# Altium schematic symbol library IC集成芯片原理图库.SchLib: 27 symbols
Pins are listed as number, name and electrical type; pins without a type are passive.

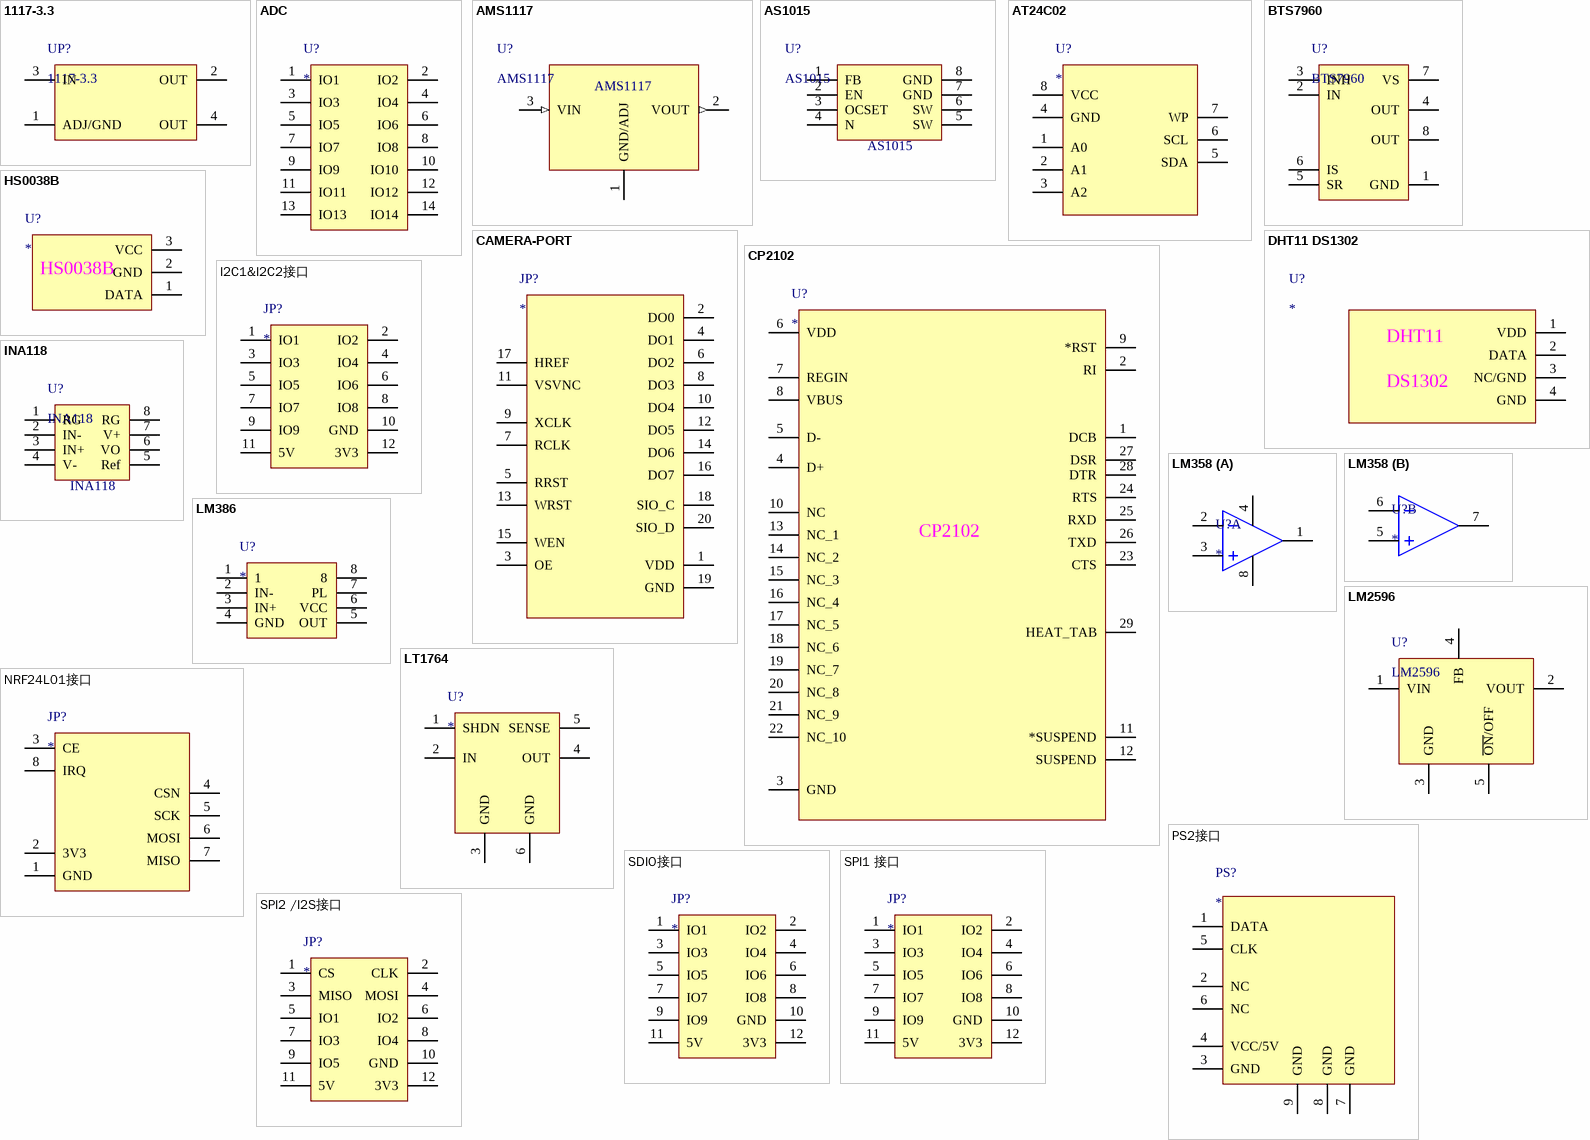
[diagram p0: symbols 1117-3.3 to SPI2 /I2S接口]

## 1117-3.3
designator UP?
pins: 1 ADJ/GND, 2 OUT, 3 IN, 4 OUT

## ADC
designator U?
pins: 1 IO1, 2 IO2, 3 IO3, 4 IO4, 5 IO5, 6 IO6, 7 IO7, 8 IO8, 9 IO9, 10 IO10, 11 IO11, 12 IO12, 13 IO13, 14 IO14

## AMS1117
designator U?
稳3V
footprint SOT223127P600-8N
pins: 1 GND/ADJ, 2 VOUT (out), 3 VIN (in)

## AS1015
designator U?
稳压芯片
footprint AS1015_SOP8L (SOP, 8-Leads, Body 5.0x4.0mm (max), Pitch 1.27mm, IPC Medium Density)
pins: 1 FB, 2 EN, 3 OCSET, 4 N, 5 SW, 6 SW, 7 GND, 8 GND

## AT24C02
designator U?
AT24C02
pins: 1 A0, 2 A1, 3 A2, 4 GND, 5 SDA, 6 SCL, 7 WP, 8 VCC

## BTS7960
designator U?
电机驱动模块芯片
footprint P-TO-263-7
pins: 1 GND, 2 IN, 3 INH, 4 OUT, 5 SR, 6 IS, 7 VS, 8 OUT

## CAMERA-PORT
designator JP?
pins: 1 VDD, 2 DO0, 3 OE, 4 DO1, 5 RRST, 6 DO2, 7 RCLK, 8 DO3, 9 XCLK, 10 DO4, 11 VSVNC, 12 DO5, 13 WRST, 14 DO6, 15 WEN, 16 DO7, 17 HREF, 18 SIO_C, 19 GND, 20 SIO_D

## CP2102
designator U?
CP2102
pins: 1 DCB, 2 RI, 3 GND, 4 D+, 5 D-, 6 VDD, 7 REGIN, 8 VBUS, 9 *RST, 10 NC, 11 *SUSPEND, 12 SUSPEND, 13 NC_1, 14 NC_2, 15 NC_3, 16 NC_4, 17 NC_5, 18 NC_6, 19 NC_7, 20 NC_8, 21 NC_9, 22 NC_10, 23 CTS, 24 RTS, 25 RXD, 26 TXD, 27 DSR, 28 DTR, 29 HEAT_TAB

## DHT11 DS1302
designator U?
pins: 1 VDD, 2 DATA, 3 NC/GND, 4 GND
text: DHT11; DS1302

## HS0038B
designator U?
HS0038B
pins: 1 DATA, 2 GND, 3 VCC

## I2C1&I2C2接口
designator JP?
pins: 1 IO1, 2 IO2, 3 IO3, 4 IO4, 5 IO5, 6 IO6, 7 IO7, 8 IO8, 9 IO9, 10 GND, 11 5V, 12 3V3

## INA118
designator U?
检波电路芯片
footprint Dip_8
pins: 1 RG, 2 IN-, 3 IN+, 4 V-, 5 Ref, 6 VO, 7 V+, 8 RG

## LM358
designator U?
运放
footprint SOP127P600-8N
footprint SOP-8
part A pins: 1, 2, 3, 4, 8
part B pins: 5, 6, 7

## LM386
designator U?
运放
pins: 1, 2 IN-, 3 IN+, 4 GND, 5 OUT, 6 VCC, 7 PL, 8

## LM2596
designator U?
LM2596开关电压调节器
footprint LM2596(S)
pins: 1 VIN, 2 VOUT, 3 GND, 4 FB, 5 ~{ON}/OFF

## LT1764
designator U?
稳6V 舵机驱动模块
pins: 1 SHDN, 2 IN, 3 GND, 4 OUT, 5 SENSE, 6 GND

## NRF24L01接口
designator JP?
pins: 1 GND, 2 3V3, 3 CE, 4 CSN, 5 SCK, 6 MOSI, 7 MISO, 8 IRQ

## PS2接口
designator PS?
PS2接口
pins: 1 DATA, 2 NC, 3 GND, 4 VCC/5V, 5 CLK, 6 NC, 7 GND, 8 GND, 9 GND

## SDIO接口
designator JP?
pins: 1 IO1, 2 IO2, 3 IO3, 4 IO4, 5 IO5, 6 IO6, 7 IO7, 8 IO8, 9 IO9, 10 GND, 11 5V, 12 3V3

## SPI1 接口
designator JP?
pins: 1 IO1, 2 IO2, 3 IO3, 4 IO4, 5 IO5, 6 IO6, 7 IO7, 8 IO8, 9 IO9, 10 GND, 11 5V, 12 3V3

## SPI2 /I2S接口
designator JP?
pins: 1 CS, 2 CLK, 3 MISO, 4 MOSI, 5 IO1, 6 IO2, 7 IO3, 8 IO4, 9 IO5, 10 GND, 11 5V, 12 3V3

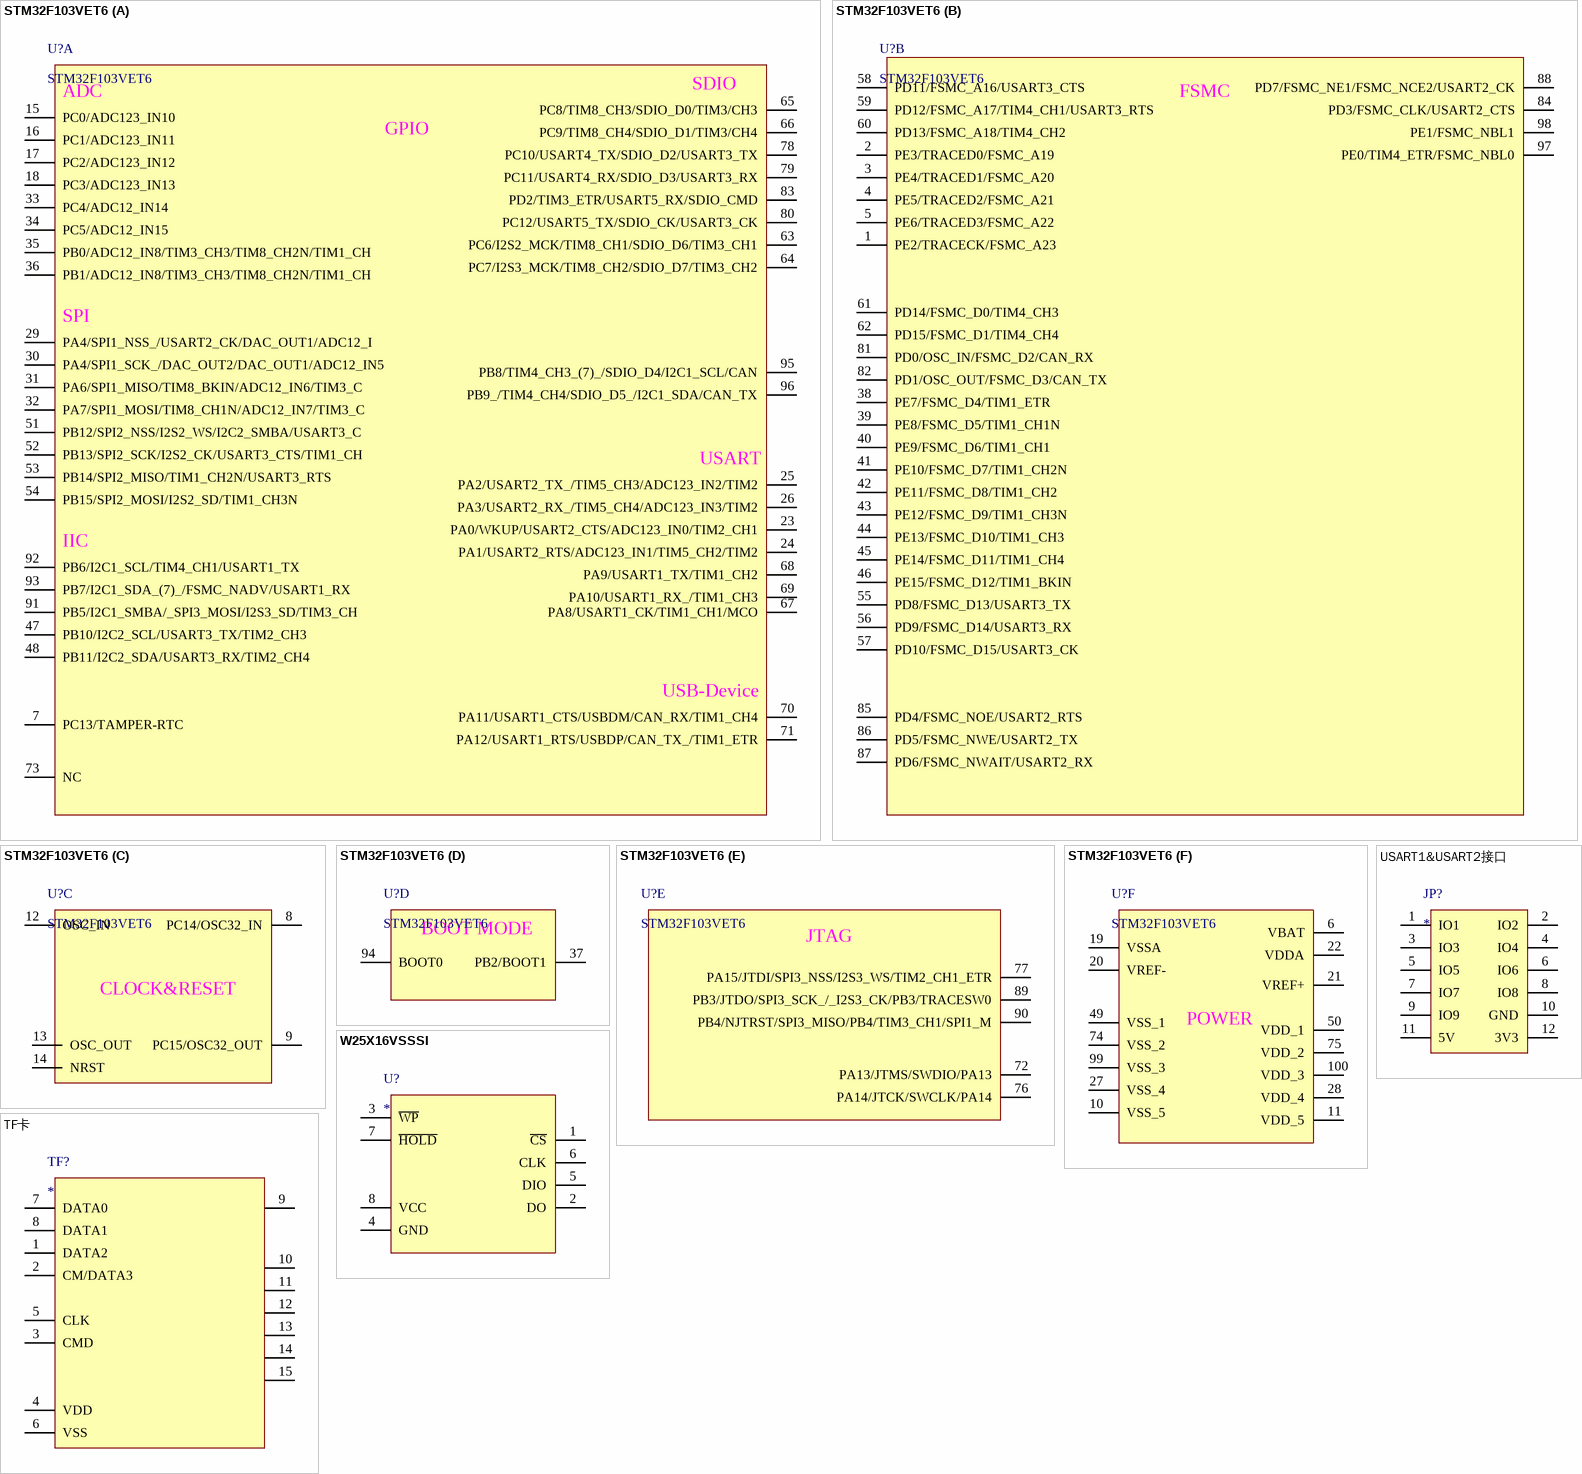
[diagram p1: symbols STM32F103VET6 to W25X16VSSSI]

## STM32F103VET6
designator U?
part A pins: 7 PC13/TAMPER-RTC, 15 PC0/ADC123_IN10, 16 PC1/ADC123_IN11, 17 PC2/ADC123_IN12, 18 PC3/ADC123_IN13, 23 PA0/WKUP/USART2_CTS/ADC123_IN0/TIM2_CH1, 24 PA1/USART2_RTS/ADC123_IN1/TIM5_CH2/TIM2, 25 PA2/USART2_TX_/TIM5_CH3/ADC123_IN2/TIM2, 26 PA3/USART2_RX_/TIM5_CH4/ADC123_IN3/TIM2, 29 PA4/SPI1_NSS_/USART2_CK/DAC_OUT1/ADC12_I, 30 PA4/SPI1_SCK_/DAC_OUT2/DAC_OUT1/ADC12_IN5, 31 PA6/SPI1_MISO/TIM8_BKIN/ADC12_IN6/TIM3_C, 32 PA7/SPI1_MOSI/TIM8_CH1N/ADC12_IN7/TIM3_C, 33 PC4/ADC12_IN14, 34 PC5/ADC12_IN15, 35 PB0/ADC12_IN8/TIM3_CH3/TIM8_CH2N/TIM1_CH, 36 PB1/ADC12_IN8/TIM3_CH3/TIM8_CH2N/TIM1_CH, 47 PB10/I2C2_SCL/USART3_TX/TIM2_CH3, 48 PB11/I2C2_SDA/USART3_RX/TIM2_CH4, 51 PB12/SPI2_NSS/I2S2_WS/I2C2_SMBA/USART3_C, 52 PB13/SPI2_SCK/I2S2_CK/USART3_CTS/TIM1_CH, 53 PB14/SPI2_MISO/TIM1_CH2N/USART3_RTS, 54 PB15/SPI2_MOSI/I2S2_SD/TIM1_CH3N, 63 PC6/I2S2_MCK/TIM8_CH1/SDIO_D6/TIM3_CH1, 64 PC7/I2S3_MCK/TIM8_CH2/SDIO_D7/TIM3_CH2, 65 PC8/TIM8_CH3/SDIO_D0/TIM3/CH3, 66 PC9/TIM8_CH4/SDIO_D1/TIM3/CH4, 67 PA8/USART1_CK/TIM1_CH1/MCO, 68 PA9/USART1_TX/TIM1_CH2, 69 PA10/USART1_RX_/TIM1_CH3, 70 PA11/USART1_CTS/USBDM/CAN_RX/TIM1_CH4, 71 PA12/USART1_RTS/USBDP/CAN_TX_/TIM1_ETR, 73 NC, 78 PC10/USART4_TX/SDIO_D2/USART3_TX, 79 PC11/USART4_RX/SDIO_D3/USART3_RX, 80 PC12/USART5_TX/SDIO_CK/USART3_CK, 83 PD2/TIM3_ETR/USART5_RX/SDIO_CMD, 91 PB5/I2C1_SMBA/_SPI3_MOSI/I2S3_SD/TIM3_CH, 92 PB6/I2C1_SCL/TIM4_CH1/USART1_TX, 93 PB7/I2C1_SDA_(7)_/FSMC_NADV/USART1_RX, 95 PB8/TIM4_CH3_(7)_/SDIO_D4/I2C1_SCL/CAN, 96 PB9_/TIM4_CH4/SDIO_D5_/I2C1_SDA/CAN_TX
part B pins: 1 PE2/TRACECK/FSMC_A23, 2 PE3/TRACED0/FSMC_A19, 3 PE4/TRACED1/FSMC_A20, 4 PE5/TRACED2/FSMC_A21, 5 PE6/TRACED3/FSMC_A22, 38 PE7/FSMC_D4/TIM1_ETR, 39 PE8/FSMC_D5/TIM1_CH1N, 40 PE9/FSMC_D6/TIM1_CH1, 41 PE10/FSMC_D7/TIM1_CH2N, 42 PE11/FSMC_D8/TIM1_CH2, 43 PE12/FSMC_D9/TIM1_CH3N, 44 PE13/FSMC_D10/TIM1_CH3, 45 PE14/FSMC_D11/TIM1_CH4, 46 PE15/FSMC_D12/TIM1_BKIN, 55 PD8/FSMC_D13/USART3_TX, 56 PD9/FSMC_D14/USART3_RX, 57 PD10/FSMC_D15/USART3_CK, 58 PD11/FSMC_A16/USART3_CTS, 59 PD12/FSMC_A17/TIM4_CH1/USART3_RTS, 60 PD13/FSMC_A18/TIM4_CH2, 61 PD14/FSMC_D0/TIM4_CH3, 62 PD15/FSMC_D1/TIM4_CH4, 81 PD0/OSC_IN/FSMC_D2/CAN_RX, 82 PD1/OSC_OUT/FSMC_D3/CAN_TX, 84 PD3/FSMC_CLK/USART2_CTS, 85 PD4/FSMC_NOE/USART2_RTS, 86 PD5/FSMC_NWE/USART2_TX, 87 PD6/FSMC_NWAIT/USART2_RX, 88 PD7/FSMC_NE1/FSMC_NCE2/USART2_CK, 97 PE0/TIM4_ETR/FSMC_NBL0, 98 PE1/FSMC_NBL1
part C pins: 8 PC14/OSC32_IN, 9 PC15/OSC32_OUT, 12 OSC_IN, 13 OSC_OUT, 14 NRST
part D pins: 37 PB2/BOOT1, 94 BOOT0
part E pins: 72 PA13/JTMS/SWDIO/PA13, 76 PA14/JTCK/SWCLK/PA14, 77 PA15/JTDI/SPI3_NSS/I2S3_WS/TIM2_CH1_ETR, 89 PB3/JTDO/SPI3_SCK_/_I2S3_CK/PB3/TRACESW0, 90 PB4/NJTRST/SPI3_MISO/PB4/TIM3_CH1/SPI1_M
part F pins: 6 VBAT, 10 VSS_5, 11 VDD_5, 19 VSSA, 20 VREF-, 21 VREF+, 22 VDDA, 27 VSS_4, 28 VDD_4, 49 VSS_1, 50 VDD_1, 74 VSS_2, 75 VDD_2, 99 VSS_3, 100 VDD_3
part A text: SDIO; ADC; GPIO; SPI; USART; IIC; USB-Device
part B text: FSMC
part C text: CLOCK&RESET
part D text: BOOT MODE
part E text: JTAG
part F text: POWER

## TF卡
designator TF?
TF卡
pins: 1 DATA2, 2 CM/DATA3, 3 CMD, 4 VDD, 5 CLK, 6 VSS, 7 DATA0, 8 DATA1, 9, 10, 11, 12, 13, 14, 15

## USART1&USART2接口
designator JP?
pins: 1 IO1, 2 IO2, 3 IO3, 4 IO4, 5 IO5, 6 IO6, 7 IO7, 8 IO8, 9 IO9, 10 GND, 11 5V, 12 3V3

## W25X16VSSSI
designator U?
W25X16VSSSI
pins: 1 ~{CS}, 2 DO, 3 ~{WP}, 4 GND, 5 DIO, 6 CLK, 7 ~{HOLD}, 8 VCC

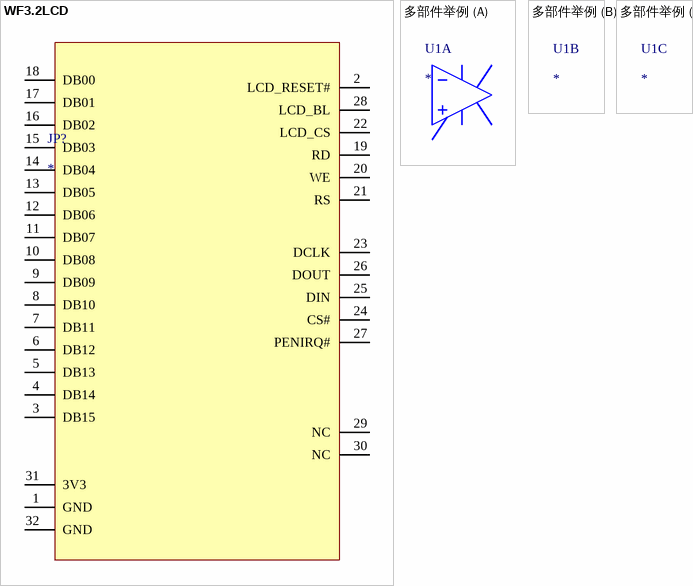
[diagram p2: symbols WF3.2LCD to 多部件举例]

## WF3.2LCD
designator JP?
WF3.2LCD
pins: 1 GND, 2 LCD_RESET#, 3 DB15, 4 DB14, 5 DB13, 6 DB12, 7 DB11, 8 DB10, 9 DB09, 10 DB08, 11 DB07, 12 DB06, 13 DB05, 14 DB04, 15 DB03, 16 DB02, 17 DB01, 18 DB00, 19 RD, 20 WE, 21 RS, 22 LCD_CS, 23 DCLK, 24 CS#, 25 DIN, 26 DOUT, 27 PENIRQ#, 28 LCD_BL, 29 NC, 30 NC, 31 3V3, 32 GND

## 多部件举例
designator U1